# Altium footprint library B3SN-3112P.PcbLib: 1 footprints
Each footprint in its own frame and in the unit in brackets; x right, y up, seen from the top. Pads: shape width x height; smd on the part's side, far side on the other; paste and mask are expansions set on the pad; w line width, h text height; cw(c..) or ccw(c..) is an arc to the next point about the centre after c.
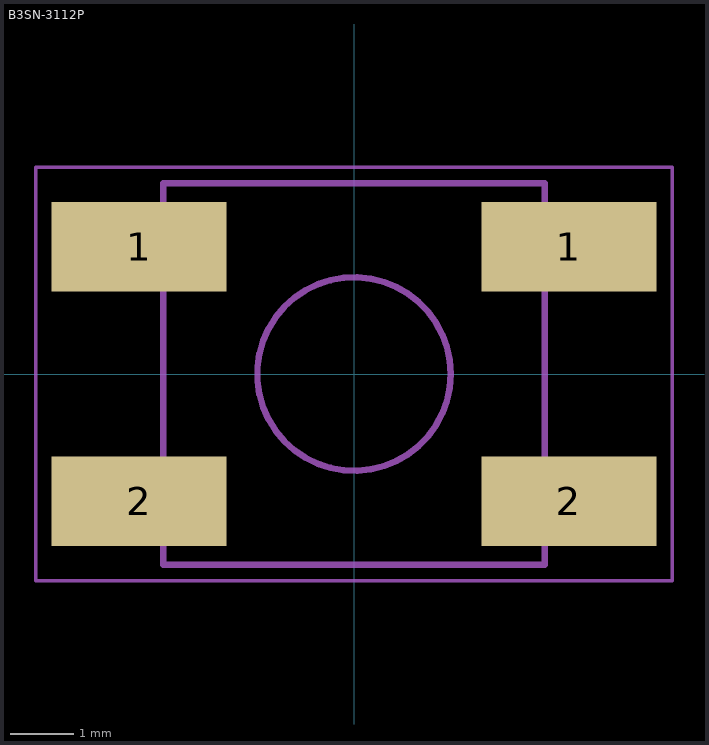
[diagram p0: the footprint, top view; thin cyan lines are the x and y axes]

## B3SN-3112P [mm]
pads (4):
  rect 2.75x1.4 smd: 1(-3.375,2) 1(3.375,2) 2(-3.375,-2) 2(3.375,-2)
Mechanical 1:
  circle w0.1: c0,0 r1.521
  lines w0.1: -3,-2.5 -3.75,-2.5 -3.75,-1.5 -3,-1.5 ; -3,1.5 -3.75,1.5 -3.75,2.5 -3,2.5 ; 3,-2.5 3.75,-2.5 3.75,-1.5 3,-1.5 ; 3,1.5 3.75,1.5 3.75,2.5 3,2.5 ; -3,-3 -3,3 3,3 3,-3 -3,-3
  text ".Designator" at -3.344,-0.343 h0.65
Mechanical 2:
  lines w0.05: -5,-3.25 5,-3.25 5,3.25 -5,3.25 -5,-3.25